# EAGLE library part 050_610_?-6/12 (library con-sullinselectronics)
.050 DIP EDGE CARD CONNECTOR .050 [1.27mm] CONTACT CENTERS .610" INSULATEOR HEIGHT Source: .050 DIP EDGE CARD.pdf
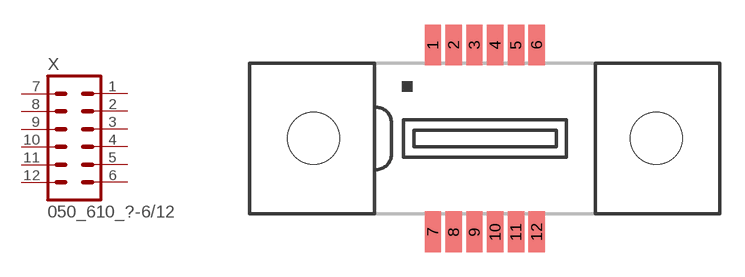
[diagram p11: symbol with the pads of 050_610_HF-6/12; footprint 050_610_HF-6/12]

Designator prefix X

## 050_610_HF-6/12 (OC_FARNELL: unknown; OC_NEWARK: unknown)  [050_610_HF-6/12]
1  1  pas
2  2  pas
3  3  pas
4  4  pas
5  5  pas
6  6  pas
7  7  pas
8  8  pas
9  9  pas
10  10  pas
11  11  pas
12  12  pas

## Footprint 050_610_HF-6/12 (pad centres in mm)
.050 DIP EDGE CARD CONNECTOR SURFACE MOUNT .050 [1.27mm] CONTACT CENTERS .610" INSULATEOR HEIGHT Source: .050 DIP EDGE CARD.pdf
smd 1 x 2.5: 1 -3.175,5.715; 2 -1.905,5.715; 3 -0.635,5.715; 4 0.635,5.715; 5 1.905,5.715; 6 3.175,5.715; 7 -3.175,-5.715; 8 -1.905,-5.715; 9 -0.635,-5.715; 10 0.635,-5.715; 11 1.905,-5.715; 12 3.175,-5.715
hole 3.18 at -10.49,0
hole 3.18 at 10.49,0